# EAGLE library part JACK/RCA/HEX (library audioint)
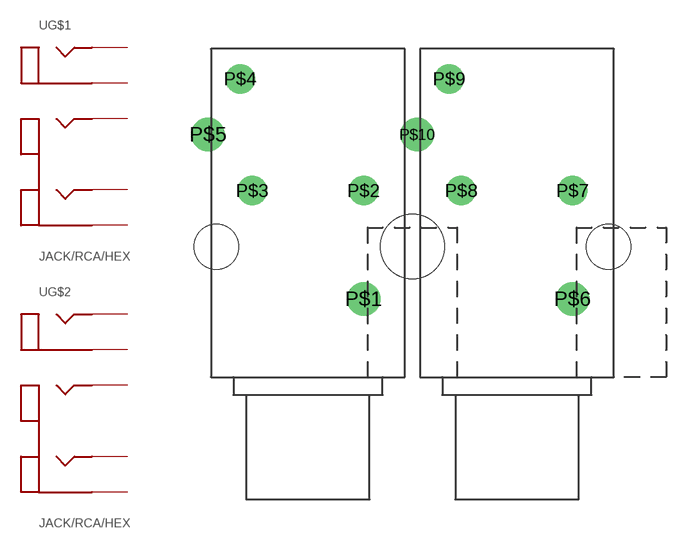
[diagram p18: symbol with the pads of JACK/RCA/HEX/161-4320-E; footprint JACK/RCA/HEX/161-4320-E]

Designator prefix -; gates G$1=JACK/RCA/TRIPLE G$2=JACK/RCA/TRIPLE

## JACK/RCA/HEX  [JACK/RCA/HEX/161-4320-E]
P$1  G$1:P$2
P$2  G$1:P$3
P$3  G$1:P$1
P$4  G$1:P$5
P$5  G$1:P$4
P$6  G$2:P$2
P$7  G$2:P$3
P$8  G$2:P$1
P$9  G$2:P$5
P$10  G$2:P$4

## Footprint JACK/RCA/HEX/161-4320-E (pad centres in mm)
drill 1.499 round: P$1 3.734,5.232; P$5 -6.706,16.256; P$6 17.755,5.232; P$10 7.315,16.256
drill 1.321 round: P$2 3.734,12.497; P$3 -3.734,12.497; P$4 -4.547,19.99; P$7 17.755,12.497; P$8 10.287,12.497; P$9 9.474,19.99
hole 2.997 at -6.147,8.738
hole 2.997 at 20.168,8.738
hole 4.318 at 7.01,8.738